# Altium schematic symbol library SCH_Active.SchLib: 24 symbols
Pins are listed as number, name and electrical type; pins without a type are passive.

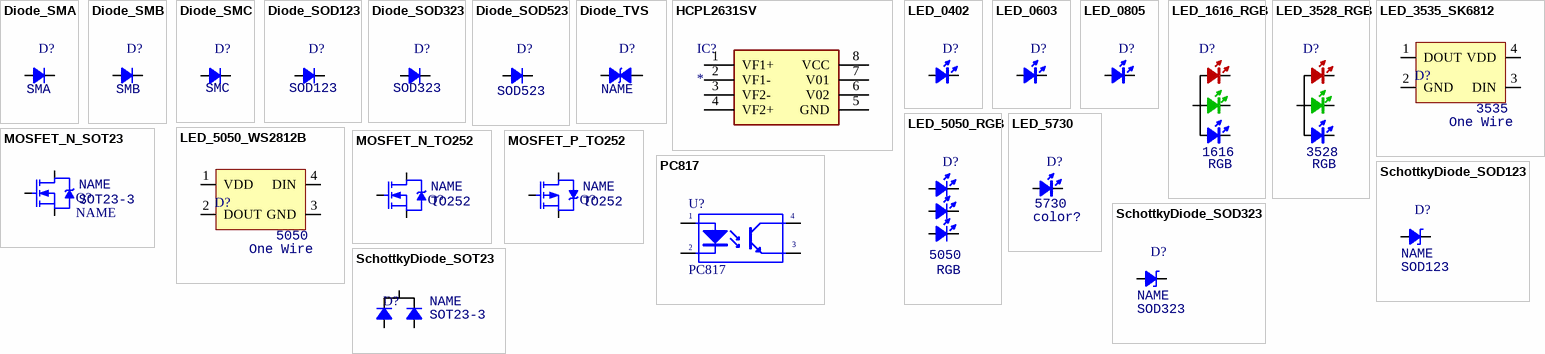
[diagram p0: symbols Diode_SMA to SchottkyDiode_SOT23]

## Diode_SMA
designator D?, comment Type: SMA  (hidden comment: NAME)
Diode; Manufacturer: *; Specification: *; Note: *; Value: NAME
footprint DO-214AC (SMA)
pins: 1 A, 2 K

## Diode_SMB
designator D?, comment Type: SMB  (hidden comment: NAME)
Diode; Manufacturer: *; Specification: *; Note: *; Value: NAME
footprint DO-214AA (SMB)
pins: 1 A, 2 K

## Diode_SMC
designator D?, comment Type: SMC  (hidden comment: NAME)
Diode; Manufacturer: *; Specification: *; Note: *; Value: NAME
footprint DO-214AB (SMC)
pins: 1 A, 2 K

## Diode_SOD123
designator D?, comment Type: SOD123  (hidden comment: NAME)
Diode; Manufacturer: *; Specification: *; Note: *; Value: NAME
footprint SOD-123
pins: 1 A, 2 K

## Diode_SOD323
designator D?, comment Type: SOD323  (hidden comment: NAME)
Diode; Manufacturer: *; Specification: *; Note: *; Value: NAME
footprint SOD-323
pins: 1 A, 2 K

## Diode_SOD523
designator D?, comment Type: SOD523  (hidden comment: NAME)
Diode; Manufacturer: *; Specification: *; Note: *; Value: NAME
footprint SOD-523
pins: 1 A, 2 K

## Diode_TVS
designator D?, comment NAME
TVS Diode; Manufacturer: *; Specification: *; Note: *; Value: NAME
footprint DO-214AA (SMB)
footprint DO-214AB (SMC)
footprint DO-214AC (SMA)
footprint SOD-323
pins: 1 A, 2 K

## HCPL2631SV
designator IC?
Integrated Circuit; Manufacturer_Name: onsemi; Manufacturer_Part_Number: HCPL2631SV; Datasheet Link: https://www.mouser.com/datasheet/2/308/HCPL2631-1301064.pdf; Height: 5.08mm; Mouser Part Number: 512-HCPL2631SV; Mouser Price/Stock: https://www.mouser.co.uk/ProductDetail/ON-Semiconductor-Fairchild/HCPL2631SV?qs=k2x4EL1%2FKj7%2FRRe8ED4B3g%3D%3D; Arrow Part Number: HCPL2631SV; Arrow Price/Stock: https://www.arrow.com/en/products/hcpl2631sv/on-semiconductor
footprint SOP254P1030X508-8N
pins: 1 VF1+, 2 VF1-, 3 VF2-, 4 VF2+, 5 GND, 6 V02, 7 V01, 8 VCC

## LED_0402
designator D?, comment D0402  (value not drawn)
LED; Value: color?; Type: 0402; Manufacturer: *; Specification: *; Note: *
footprint LED_0402_RED
footprint LED_0402_BLUE
footprint LED_0402_ORANGE
footprint LED_0402_YELLOW
footprint LED_0402_GREEN
pins: 1 A, 2 K

## LED_0603
designator D?, comment D0603  (value not drawn)
LED; Value: color?; Type: 0603; Manufacturer: *; Specification: *; Note: *
footprint LED_0603_GREEN
footprint LED_0603_BLUE
footprint LED_0603_RED
footprint LED_0603_ORANGE
footprint LED_0603_YELLOW
pins: 1 A, 2 K

## LED_0805
designator D?, comment D0805  (value not drawn)
LED; Value: color?; Type: 0805; Manufacturer: *; Specification: *; Note: *
footprint LED_0805_GREEN
footprint LED_0805_BLUE
footprint LED_0805_RED
footprint LED_0805_ORANGE
footprint LED_0805_YELLOW
pins: 1 A, 2 K

## LED_1616_RGB
designator D?, comment value RGB  Type: 1616  (hidden comment: D1616)
LED; Manufacturer: *; Specification: *; Note: *
footprint LED_1616_RGB
pins: 1 R, 2 G, 3 B, 4 A

## LED_3528_RGB
designator D?, comment value RGB  Type: 3528  (hidden comment: D3528)
LED; Manufacturer: *; Specification: *; Note: *
footprint LED_3528_RGB
pins: 1 R, 2 G, 3 B, 4 A

## LED_3535_SK6812
designator D?, comment value One Wire  Type: 3535  (hidden comment: D3535)
One Wire LED; Manufacturer: *; Specification: *; Note: *
footprint LED_3535_4P
pins: 1 DOUT, 2 GND, 3 DIN, 4 VDD

## LED_5050_RGB
designator D?, comment value RGB  Type: 5050  (hidden comment: D5050)
LED; Manufacturer: *; Specification: *; Note: *
footprint LED_5050_6P
pins: 1 K, 2 K, 3 K, 4 A, 5 A, 6 A

## LED_5050_WS2812B
designator D?, comment value One Wire  Type: 5050  (hidden comment: D5050)
One Wire LED; Manufacturer: *; Specification: *; Note: *
footprint LED_5050_WS2812B
pins: 1 VDD, 2 DOUT, 3 GND, 4 DIN

## LED_5730
designator D?, comment value color?  Type: 5730  (hidden comment: D5730)
LED; Manufacturer: *; Specification: *; Note: *
footprint LED_5730_WHITE
pins: 1 A, 2 K

## MOSFET_N_SOT23
designator Q?, comment NAME  Type: SOT23-3
MOSFET; Note: NMOS; Manufacturer: *; Specification: *; Value: NAME
footprint SOT23-3
pins: 1 G, 2 S, 3 D

## MOSFET_N_TO252
designator Q?, comment Type: TO252  (hidden comment: NAME)
MOSFET; Note: NMOS; Manufacturer: *; Specification: *; Value: NAME
footprint TO-252AA
pins: 1 G, 3 S, 4 D

## MOSFET_P_TO252
designator Q?, comment Type: TO252  (hidden comment: NAME)
MOSFET; Note: PMOS; Manufacturer: *; Specification: *; Value: NAME
footprint TO-252AA
pins: 1 G, 3 S, 4 D

## PC817
designator U?
Single Opto; Value: PC817
footprint SOP254P960X420-4N
pins: 1 A "Anode", 2 K "Cathode", 3 E "Emitter", 4 C "Collector"

## SchottkyDiode_SOD123
designator D?, comment Type: SOD123  (hidden comment: NAME)
Schottky Diode; Manufacturer: *; Specification: *; Note: *; Value: NAME
footprint SOD-123
pins: 1 A, 2 K

## SchottkyDiode_SOD323
designator D?, comment Type: SOD323  (hidden comment: NAME)
Schottky Diode; Manufacturer: *; Specification: *; Note: *; Value: NAME
footprint SOD-323
pins: 1 A, 2 K

## SchottkyDiode_SOT23
designator D?, comment Type: SOT23-3  (hidden comment: NAME)
Schottky Diode; Manufacturer: *; Specification: *; Note: *; Value: NAME
footprint SOT23-3
pins: 1 A, 2 A, 3 K